# Altium schematic symbol library Fuses.SchLib: 7 symbols
Pins are listed as number, name and electrical type; pins without a type are passive.

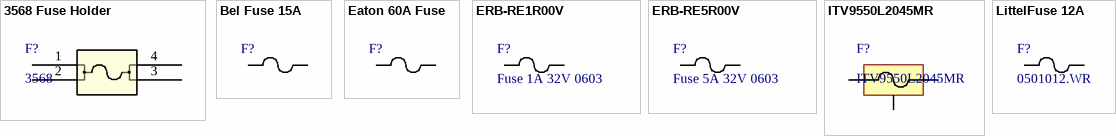
[diagram p0: symbols 3568 Fuse Holder to LittelFuse 12A]

## 3568 Fuse Holder
designator F?, comment 3568
Keystone  | 30A | 500V AC | TH; Mfr_Name: Keystone Electronics; Type: DEV; Copyright: Copyright (C) 2023 Ultra Librarian. All rights reserved.; Manufacturer_Part_Number: 3568; RefDes: RefDes
footprint 3568_KEY
pins: 1, 2, 3, 4

## Bel Fuse 15A
designator F?, comment 0685H9150-01  (value not drawn)
Bel Fuse  | 15A | 32V DC | SMD | Fast Blow | 1206; Current Rating: 15; Breaking Capacity: 150A; Mfr_Name: Bel Fuse; Manufacturer_Part_Number: 0685H9150-01; Voltage Rating: 32V; Response Time: Fast Blow; Package: 1206; Created By: Nathan Ayer
footprint 0501Series_LTF
pins: 1, 2

## Eaton 60A Fuse
designator F?, comment 1245HC60-RTR  (value not drawn)
Eaton  | 60A | 80V DC | SMD | Fast Blow | 2-SMD; Breaking Capacity: 1kA; Mfr_Name: Eaton; Manufacturer_Part_Number: 1245HC60-RTR; Current Rating: 60A; Voltage Rating: 80V; Response Time: Fast Blow; Package: 2-SMD; Created By: Nathan Ayer; ComponentLink1Description: DigiKey; ComponentLink1URL: https://www.digikey.com/en/products/detail/eaton-electronics-division/1245HC60-RTR/13913536
footprint 2-SMD Fuse
pins: 1, 2

## ERB-RE1R00V
designator F?, comment Fuse 1A 32V 0603
Pansonic | 32V | 1A | 0603 | Fast Blow; Mfr_Name: Panasonic; Manufacturer_Part_Number: ERB-RE1R00V; Breaking Capacity: 150A; Current Rating: 1A; Voltage Rating: 32V; Response Time: Fast Blow; Package: 1206; Created By: Nathan Ayer; Supplier 1: Digi-Key; Supplier Part Number 1: P15124CT-ND
footprint 2-SMD Fuse 0603 (0603 Fuse Footprint)
pins: 1, 2

## ERB-RE5R00V
designator F?, comment Fuse 5A 32V 0603
Pansonic | 32V | 5A | 0603 | Fast Blow; Mfr_Name: Panasonic; Manufacturer_Part_Number: ERB-RE5R00V; Breaking Capacity: 150A; Current Rating: 5A; Voltage Rating: 32V; Response Time: Fast Blow; Package: 1206; Created By: Robert Pafford; Supplier 1: Digi-Key; Supplier Part Number 1: P15125CT-ND
footprint 2-SMD Fuse 0603 (0603 Fuse Footprint)
pins: 1, 2

## ITV9550L2045MR
designator F?
LittelFuse  | 45A | 5S | SMD | Self-Control Protector; Mfr_Name: Littelfuse Inc; Voltage Rating: 85V; Response Time: >1min for 2x45A; Breaking Capacity: 120A; Manufacturer_Part_Number: ITV9550L2045MR; Current Rating: 45A; Package: Proprietary; Created By: Flip B
footprint ITV9550 (Littlefuse ITV9550)
pins: 1, 2, 3

## LittelFuse 12A
designator F?, comment 0501012.WR
LittelFuse  | 12A | 12V | SMD | Fast Blow | 1206; Mfr_Name: Littelfuse Inc; Voltage Rating: 32V; Breaking Capacity: 150A; Manufacturer_Part_Number: 0501012.WR; Current Rating: 12A; Response Time: Fast Blow; Package: 1206; Created By: Nathan Ayer
footprint 0501Series_LTF
pins: 1, 2